# EAGLE library part SCREW_TERM_1X06_2.54 (library Connectors-Terminal_Block)
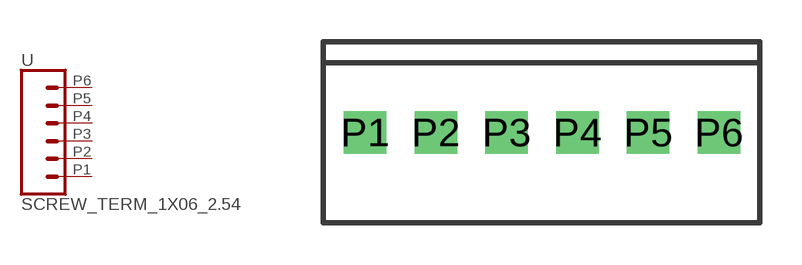
[diagram p0: symbol with the pads of 1X06_2.54_SCREWTERM; footprint 1X06_2.54_SCREWTERM]

Designator prefix -

## SCREW_TERM_1X06_2.54  [1X06_2.54_SCREWTERM]
P1  1  pas
P2  2  pas
P3  3  pas
P4  4  pas
P5  5  pas
P6  6  pas

## Footprint 1X06_2.54_SCREWTERM (pad centres in mm)
6 Pin Screw Terminal - 2.54mm Specifications: Pin count:6 Pin pitch:0.1" Example device(s): CONN_02
drill 1.016 square: P1 0,0; P2 2.54,0; P3 5.08,0; P4 7.62,0; P5 10.16,0; P6 12.7,0